# EAGLE library part EPG.1B.310.HLNS (library lplemo)
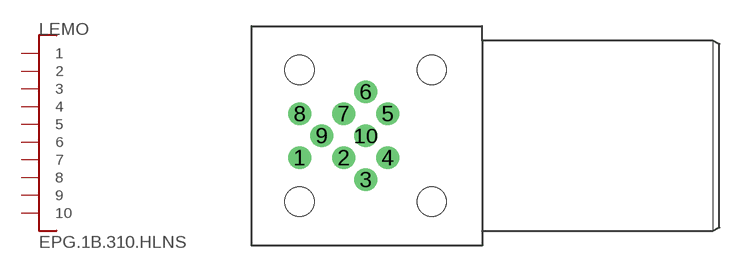
[diagram p26: symbol with the pads of P19-EPG-EXG-1B.310S; footprint P19-EPG-EXG-1B.310S]

Designator prefix LEMO

## EPG.1B.310.HLNS  [P19-EPG-EXG-1B.310S]
1  1
2  2
3  3
4  4
5  5
6  6
7  7
8  8
9  9
10  10

## Footprint P19-EPG-EXG-1B.310S (pad centres in mm)
drill 0.8 round: 1 -7.62,-1.27; 2 -5.08,-1.27; 3 -3.81,-2.54; 4 -2.54,-1.27; 5 -2.54,1.27; 6 -3.81,2.54; 7 -5.08,1.27; 8 -7.62,1.27; 9 -6.35,0; 10 -3.81,0
hole 1.7 at -7.62,-3.81
hole 1.7 at 0,-3.81
hole 1.7 at 0,3.81
hole 1.7 at -7.62,3.81